# EAGLE library part JS202011JAQN (library SMD Slide Switch)
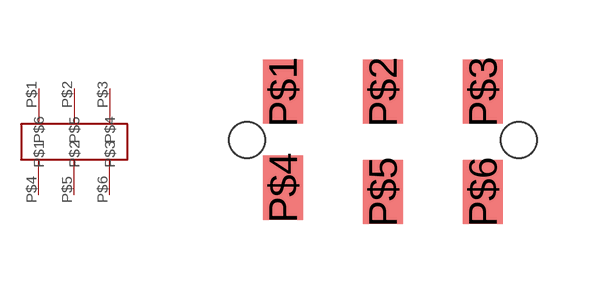
[diagram p0: symbol with the pads of JS202011JAQN; footprint JS202011JAQN]

Designator prefix -

## JS202011JAQN  [JS202011JAQN]
P$1  P$1
P$2  P$2
P$3  P$3
P$4  P$6
P$5  P$5
P$6  P$4

## Footprint JS202011JAQN (pad centres in mm)
smd 1 x 1.6: P$1 0,0; P$2 2.5,0; P$3 5,0; P$4 0,-2.4; P$5 2.5,-2.5; P$6 5,-2.5
hole 0.9 at -0.9,-1.2
hole 0.9 at 5.9,-1.2